# EAGLE library part M74HC221RM13TR (library ST Microelectronics)
DUAL MONOSTABLE MULTIVIBRATOR
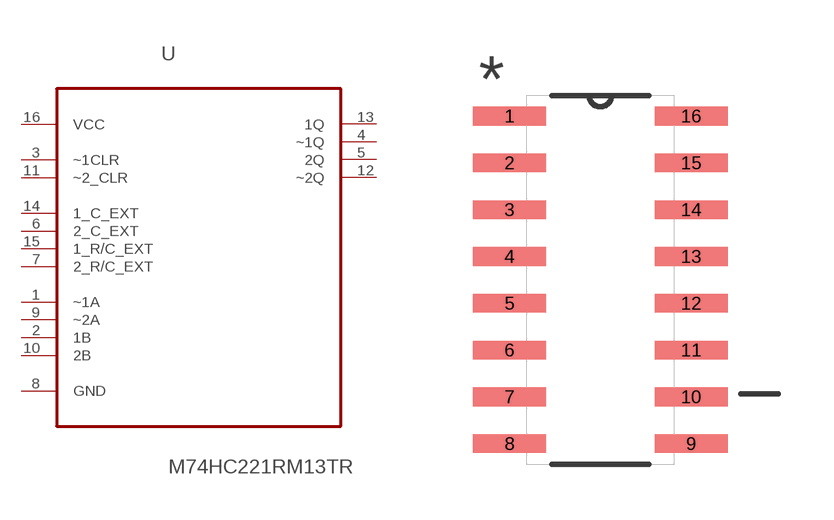
[diagram p223: symbol with the pads of SOIC127P600X175-16N; footprint SOIC127P600X175-16N]

Designator prefix U

## M74HC221RM13TR (MPN: M74HC221RM13TR; OC_FARNELL: 1607839; OC_NEWARK: 89K0875; PACKAGE: SOIC-16; SUPPLIER: STMICROELECTRONICS)  [SOIC127P600X175-16N]
1  ~1A  in
2  1B  in
3  ~1CLR  in
4  ~1Q  out
5  2Q  out
6  2_C_EXT  in
7  2_R/C_EXT  in
8  GND  pas
9  ~2A  in
10  2B  in
11  ~2_CLR  in
12  ~2Q  out
13  1Q  out
14  1_C_EXT  in
15  1_R/C_EXT  in
16  VCC  pwr

## Footprint SOIC127P600X175-16N (pad centres in mm)
smd 1.981 x 0.508: 1 -2.464,4.445; 2 -2.464,3.175; 3 -2.464,1.905; 4 -2.464,0.635; 5 -2.464,-0.635; 6 -2.464,-1.905; 7 -2.464,-3.175; 8 -2.464,-4.445; 9 2.464,-4.445; 10 2.464,-3.175; 11 2.464,-1.905; 12 2.464,-0.635; 13 2.464,0.635; 14 2.464,1.905; 15 2.464,3.175; 16 2.464,4.445